# EAGLE library part HARWIN_12 (library CNTRL_BOARD)
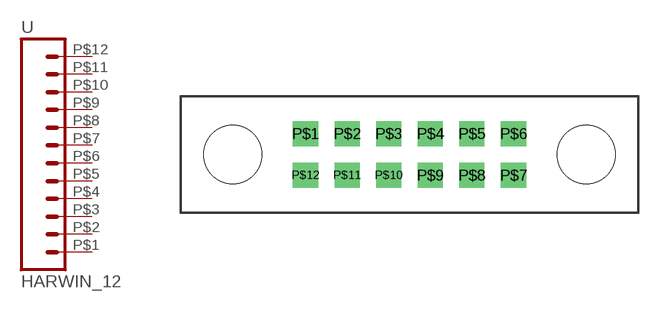
[diagram p5: symbol with the pads of HARWIN_DATAMATE_12; footprint HARWIN_DATAMATE_12]

Designator prefix -

## HARWIN_12  [HARWIN_DATAMATE_12]
P$1  1  pas
P$2  2  pas
P$3  3  pas
P$4  4  pas
P$5  5  pas
P$6  6  pas
P$7  7  pas
P$8  8  pas
P$9  9  pas
P$10  10  pas
P$11  11  pas
P$12  12  pas

## Footprint HARWIN_DATAMATE_12 (pad centres in mm)
drill 0.7 square: P$1 -5,1; P$2 -3,1; P$3 -1,1; P$4 1,1; P$5 3,1; P$6 5,1; P$7 5,-1; P$8 3,-1; P$9 1,-1; P$10 -1,-1; P$11 -3,-1; P$12 -5,-1
hole 2.8 at -8.5,0
hole 2.8 at 8.5,0